# Altium footprint library Misc.PcbLib: 23 footprints (part 2 of 2)
Each footprint in its own frame and in the unit in brackets; x right, y up, seen from the top. Pads: shape width x height; smd on the part's side, far side on the other; paste and mask are expansions set on the pad; w line width, h text height; cw(c..) or ccw(c..) is an arc to the next point about the centre after c.
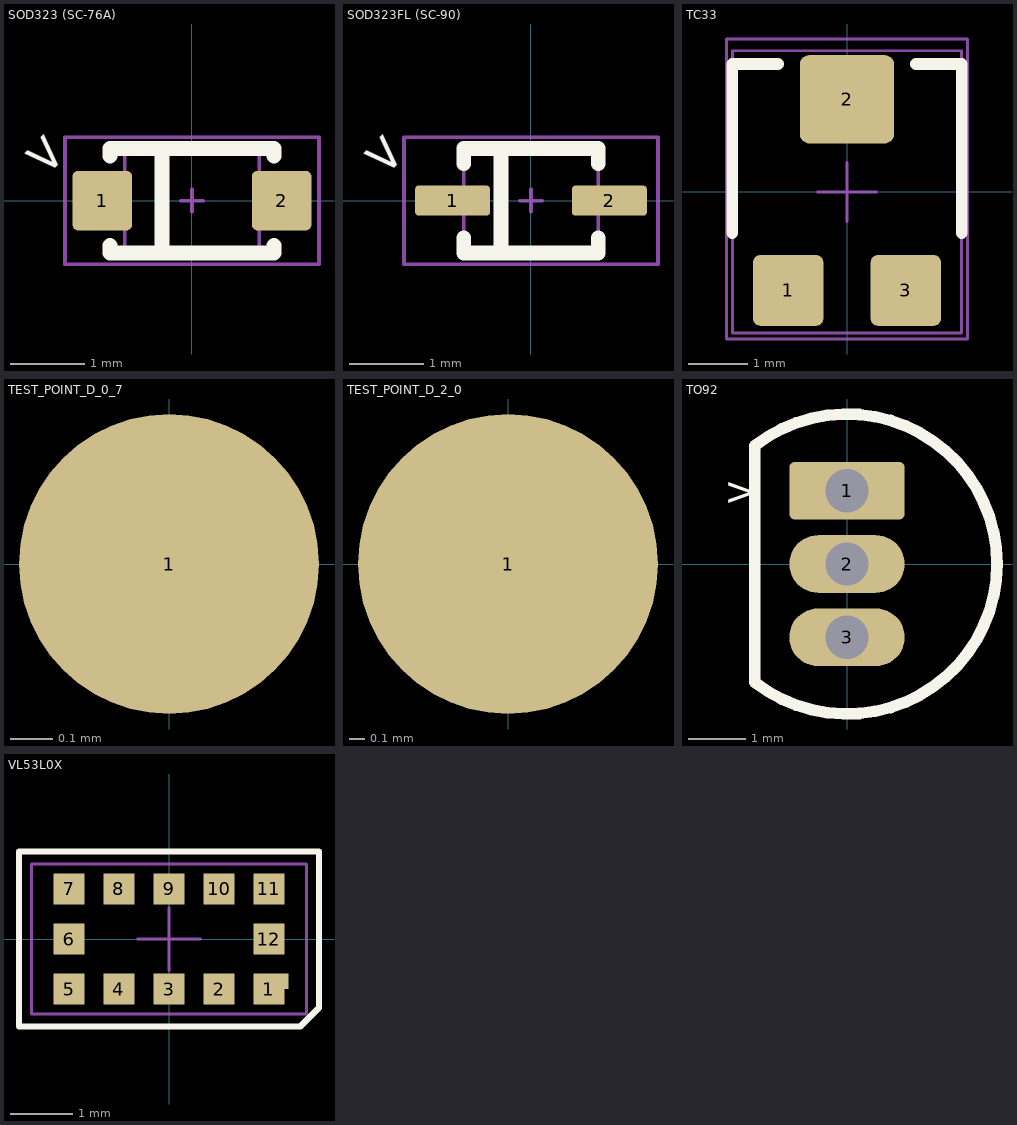
[diagram p1: the footprints below, top view; thin cyan lines are the x and y axes]

## SOD323 (SC-76A) [mm]
height 0.75
pads (2):
  rrect20% 0.8x0.8 smd mask+0.05: 1(-1.2,0) 2(1.2,0)
Top Overlay:
  lines w0.2: -1.1,-0.6 -1.1,-0.7 0,-0.7 1.1,-0.7 1.1,-0.6 ; -1.1,0.6 -1.1,0.7 0,0.7 1.1,0.7 1.1,0.6 ; -0.4,-0.7 -0.4,0.7
  text ">" at -2.315,0.662 h0.5
Top Assembly:
  lines w0.05: -0.9,-0.7 -0.9,0.7 0.9,0.7 0.9,-0.7 -0.9,-0.7
Top Courtyard:
  lines w0.05: -1.7,-0.85 -1.7,0.85 1.7,0.85 1.7,-0.85 -1.7,-0.85
Top Component Center:
  lines w0.05: -0.15,0 0.15,0 ; 0,-0.15 0,0.15
3D body "SC-76A.stp": height 1.15, standoff 0, extent -1.35,-0.725 1.35,0.725

## SOD323FL (SC-90) [mm]
height 0.75
pads (2):
  rrect20% 1x0.4 smd mask+0.05: 1(-1.05,0) 2(1.05,0)
Top Overlay:
  lines w0.2: -0.9,-0.5 -0.9,-0.7 0.9,-0.7 0.9,-0.5 ; -0.9,0.5 -0.9,0.7 0.9,0.7 0.9,0.5 ; -0.4,-0.7 -0.4,0.7
  text ">" at -2.315,0.662 h0.5
Top Assembly:
  lines w0.05: -0.9,-0.675 0.9,-0.675 0.9,0.675 -0.9,0.675 -0.9,-0.675
Top Courtyard:
  lines w0.05: -1.7,-0.85 1.7,-0.85 1.7,0.85 -1.7,0.85 -1.7,-0.85
Top Component Center:
  lines w0.05: -0.15,0 0.15,0 ; 0,-0.15 0,0.15
3D body "SOD323F MD.step": height 0.75, standoff 0, extent -1.25,-0.675 1.25,0.675

## TC33 [mm] "TC33 - 3 mm SMD Trimpot® Trimming Potentiometer"
height 1
pads (3):
  rrect20% 1.2x1.2 smd paste+0 mask+0.05: 1(-1,-1.675) 3(1,-1.675)
  rrect20% 1.6x1.5 smd paste+0 mask+0.05: 2(0,1.575)
Top Overlay:
  lines w0.2: -1.95,-0.7 -1.95,2.175 -1.175,2.175 ; 1.175,2.175 1.95,2.175 1.95,-0.7
Top Assembly (Mech3):
  lines w0.05: -1.95,-2.4 -1.95,2.4 1.95,2.4 1.95,-2.4 -1.95,-2.4
Top Courtyard:
  lines w0.05: -2.05,-2.375 -2.05,2.425 ; 2.05,-2.375 2.05,2.6 -2.05,2.6 -2.05,-2.5 2.05,-2.5 2.05,2.425
Top Component Center:
  lines w0.05: -0.5,0 0.5,0 ; 0,-0.5 0,0.5
3D body "Res_Bourns_TC33X-2-104E_eec.STEP": height 0.25, standoff 0, extent -2.05,-2.375 2.05,2.425

## TEST_POINT_D_0_7 [mm]
pads (1):
  round 0.7 smd mask+0.05: 1(0,0)
Top Component Center:
  lines w0.05: -0.15,0 0.15,0 ; 0,-0.15 0,0.15

## TEST_POINT_D_2_0 [mm]
pads (1):
  round 2 smd mask+0.05: 1(0,0)
Top Component Center:
  lines w0.05: -0.15,0 0.15,0 ; 0,-0.15 0,0.15

## TO92 [mm]
pads (3):
  rrect20% 2x1 hole 0.75 mask+0.05: 1(0,1.27)
  oval 2x1 hole 0.75 mask+0.05: 2(0,0) 3(0,-1.27)
Top Overlay:
  lines w0.2: -1.601,-2.049 ccw(c0,0) -1.601,2.049 -1.6,-2.049
  text ">" at -2.125,1.02 h0.5
Top Assembly:
  lines w0.05: -1.601,-2.049 ccw(c0,0) -1.601,2.049 -1.6,-2.049
Top Courtyard:
  lines w0.05: -1.601,-2.049 ccw(c0,0) -1.601,2.049 -1.6,-2.049
Top Component Center:
  lines w0.05: -0.15,0 0.15,0 ; 0,-0.15 0,0.15
3D body: height 5.2, standoff 0, extent -1.6,-2.611 2.599,2.611

## VL53L0X [mm]
pads (13):
  rect 0.5x0.5 smd mask+0.05: 1(1.6,-0.8) 2(0.8,-0.8) 3(0,-0.8) 4(-0.8,-0.8) 5(-1.6,-0.8) 6(-1.6,0) 7(-1.6,0.8) 8(-0.8,0.8) 9(0,0.8) 10(0.8,0.8) 11(1.6,0.8) 12(1.6,0)
  rrect20% 0.08x0.25 smd mask+0.05: 1(1.875,-0.675)
Top Overlay:
  lines w0.1: -2.4,-1.4 2.1,-1.4 2.4,-1.1 2.4,1.4 -2.4,1.4 -2.4,-1.4
Top Assembly (Mech3):
  lines w0.05: -2.2,-1.2 2.2,-1.2 2.2,1.2 -2.2,1.2 -2.2,-1.2
Top Component Center:
  lines w0.05: -0.5,0 0.5,0 ; 0,-0.5 0,0.5
3D body "vl53l0x.SLDPRT": height 1, standoff -0.03, extent -2.2,-1.2 2.2,1.2